# Altium footprint library SI940D.PcbLib: 31 footprints (part 2 of 2)
Each footprint in its own frame and in the unit in brackets; x right, y up, seen from the top. Pads: shape width x height; smd on the part's side, far side on the other; paste and mask are expansions set on the pad; w line width, h text height; cw(c..) or ccw(c..) is an arc to the next point about the centre after c.
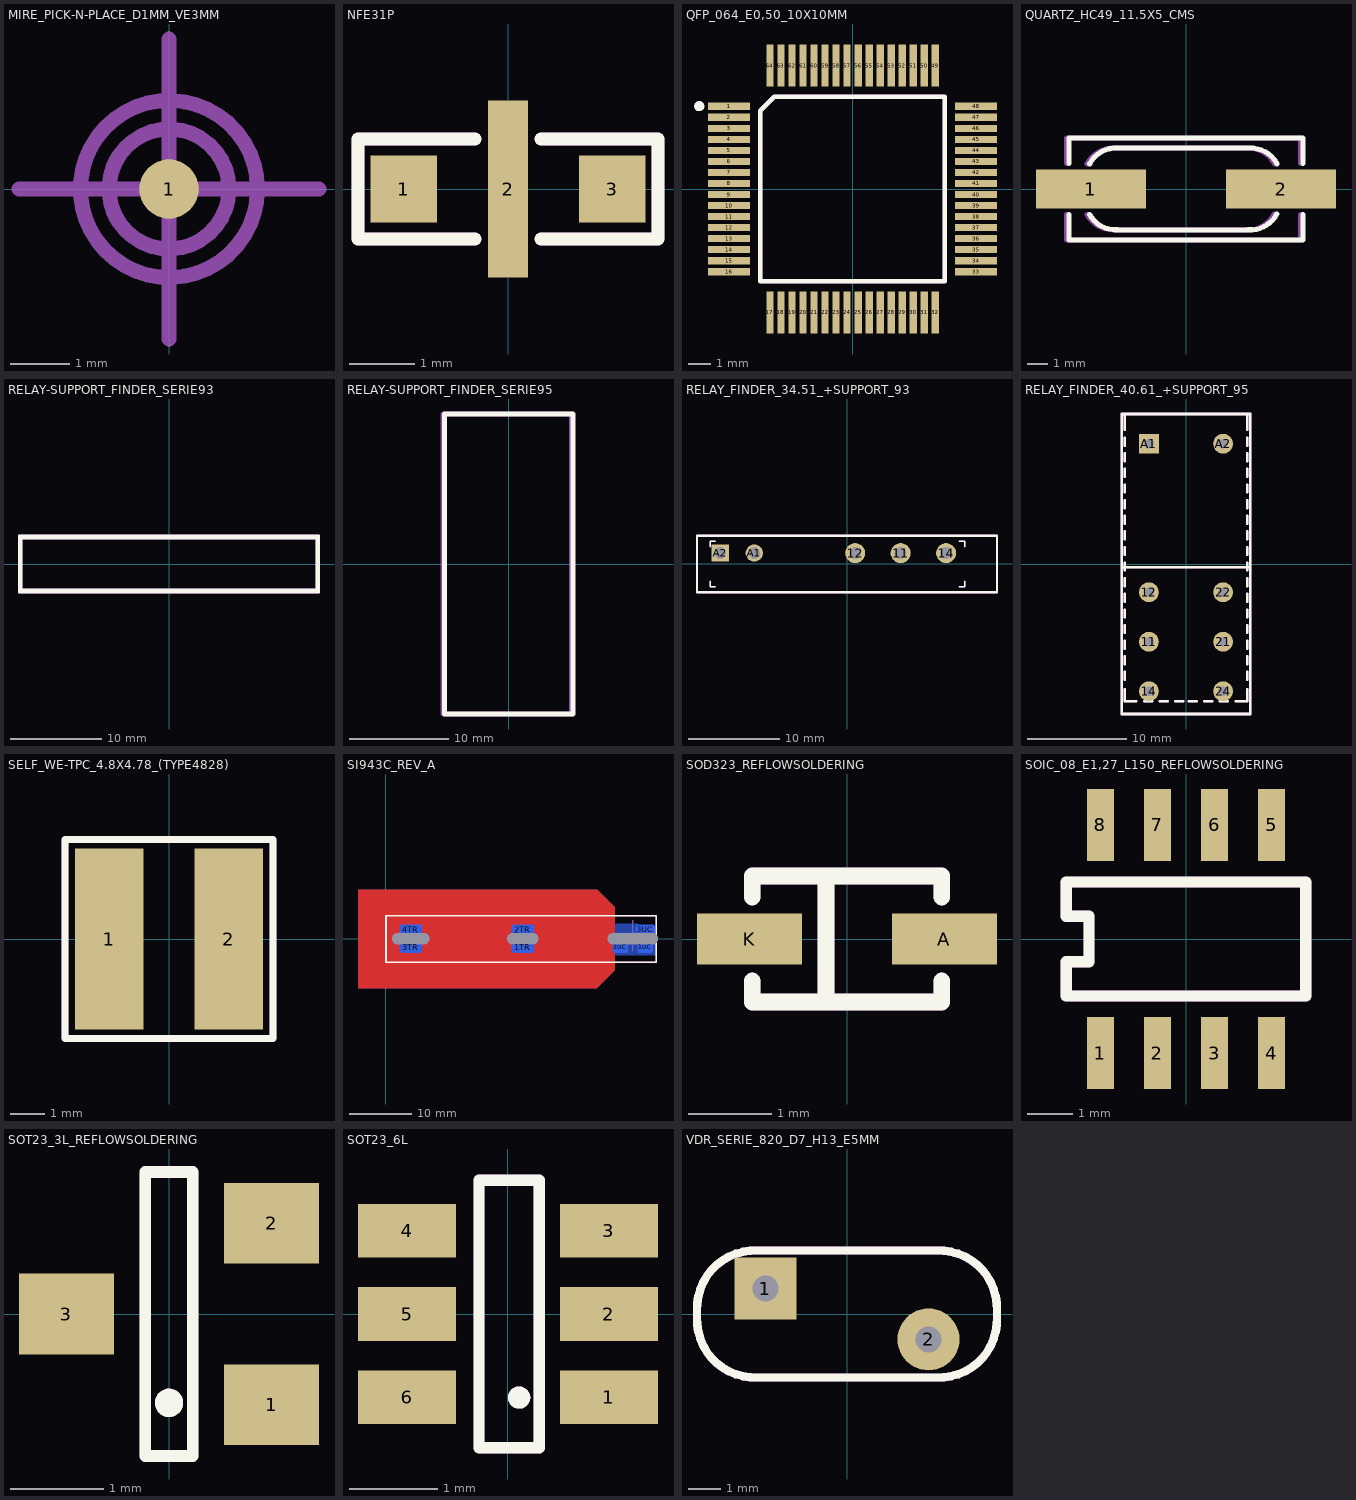
[diagram p1: the footprints below, top view; thin cyan lines are the x and y axes]

## MIRE_PICK-N-PLACE_D1MM_VE3MM [mm]
pads (1):
  round 1 smd paste-25.4 mask+1: 1(0,0)
Mechanical 10:
  circle w0.254: c0,0 r1.016
  circle w0.254: c0,0 r1.5
  lines w0.254: -2.54,0 2.54,0 ; 0,-2.54 0,2.54

## NFE31P [mil]
pads (3):
  rect 40x40 smd paste-3: 1(-62.5,0) 3(62.5,0)
  rect 24x106 smd paste-3 mask+4: 2(0,0)
Top Overlay:
  lines w8: -20,-30 -90,-30 -90,30 -20,30 ; 20,-30 90,-30 90,30 20,30
Mechanical 11:
  lines w8: -20,-30 -90,-30 -90,30 -20,30 ; 20,-30 90,-30 90,30 20,30
  text ".Designator" at -80,-10 h40

## QFP_064_E0,50_10X10MM [mm]
pads (64):
  rect 1.905x0.33 smd paste-0.076 mask+0.102: 1(-5.6,3.75) 2(-5.6,3.25) 3(-5.6,2.75) 4(-5.6,2.25) 5(-5.6,1.75) 6(-5.6,1.25) 7(-5.6,0.75) 8(-5.6,0.25) 9(-5.6,-0.25) 10(-5.6,-0.75) 11(-5.6,-1.25) 12(-5.6,-1.75) 13(-5.6,-2.25) 14(-5.6,-2.75) 15(-5.6,-3.25) 16(-5.6,-3.75) 33(5.6,-3.75) 34(5.6,-3.25) 35(5.6,-2.75) 36(5.6,-2.25) 37(5.6,-1.75) 38(5.6,-1.25) 39(5.6,-0.75) 40(5.6,-0.25) 41(5.6,0.25) 42(5.6,0.75) 43(5.6,1.25) 44(5.6,1.75) 45(5.6,2.25) 46(5.6,2.75) 47(5.6,3.25) 48(5.6,3.75)
  rect 0.33x1.905 smd paste-0.076 mask+0.102: 17(-3.75,-5.6) 18(-3.25,-5.6) 19(-2.75,-5.6) 20(-2.25,-5.6) 21(-1.75,-5.6) 22(-1.25,-5.6) 23(-0.75,-5.6) 24(-0.25,-5.6) 25(0.25,-5.6) 26(0.75,-5.6) 27(1.25,-5.6) 28(1.75,-5.6) 29(2.25,-5.6) 30(2.75,-5.6) 31(3.25,-5.6) 32(3.75,-5.6) 49(3.75,5.6) 50(3.25,5.6) 51(2.75,5.6) 52(2.25,5.6) 53(1.75,5.6) 54(1.25,5.6) 55(0.75,5.6) 56(0.25,5.6) 57(-0.25,5.6) 58(-0.75,5.6) 59(-1.25,5.6) 60(-1.75,5.6) 61(-2.25,5.6) 62(-2.75,5.6) 63(-3.25,5.6) 64(-3.75,5.6)
Top Overlay:
  circle w0.254: c-6.96,3.759 r0.102
  lines w0.203: -4.191,-4.191 4.191,-4.191 4.191,4.191 -3.556,4.191 -4.191,3.556 -4.191,-4.191
Mechanical 11:
  lines w0.203: -4.191,-4.191 -4.191,3.556 -3.556,4.191 4.191,4.191 4.191,-4.191 -4.191,-4.191
  text ".Designator" at -3.048,0 h1.78
3D body "User Library-TQFP64.STEP": height 1.1, standoff 0, extent -6,-6 6.017,6.017

## QUARTZ_HC49_11.5X5_CMS [mil] "HC49/4H SMX"
height 590.55
pads (2):
  rect 216x77 smd paste-3: 1(-187.01,0) 2(187.01,0)
Top Overlay:
  lines w10: -230,-50 -230,-100 230,-100 230,-50 ; -230,50 -230,100 230,100 230,50 ; -189.62,-49.82 ccw(c-138.61,-22.23) -134.96,-80.12 ; -189.31,49.68 cw(c-138.01,22.63) -134.36,80.51 ; -139.3,-80.3 123.2,-80.3 ; -134,80.5 128.5,80.5 ; 123.46,-80.21 ccw(c127.11,-22.33) 178.5,-49.2 ; 124.16,80.32 cw(c127.81,22.43) 179.11,49.48
Mechanical 11:
  lines w10: -235,-50 -235,-100 225,-100 225,-50 ; -235,50 -235,100 225,100 225,50 ; -194.62,-49.82 ccw(c-143.61,-22.23) -139.96,-80.12 ; -194.31,49.68 cw(c-143.01,22.63) -139.36,80.51 ; -144.3,-80.3 118.2,-80.3 ; -139,80.5 123.5,80.5 ; 118.46,-80.21 ccw(c122.11,-22.33) 173.5,-49.2 ; 119.16,80.32 cw(c122.81,22.43) 174.11,49.48
  text ".Designator" at -155,-10 h70
3D body "SW3dPS-hc49_cystal.STEP": height 200, standoff 0, extent -263.78,-96.45 263.78,96.46

## RELAY-SUPPORT_FINDER_SERIE93 [mm]
Top Overlay:
  lines w0.254: -16.5,-2.846 16.5,-2.846 ; -16.5,2.846 16.5,2.846 ; -16.246,-3.1 -16.246,3.1 ; 16.246,-3.1 16.246,3.1 ; -16.5,-3.1 -16.5,3.1 16.5,3.1 16.5,-3.1 -16.5,-3.1
Mechanical 11:
  lines w0.254: -16.5,-2.846 16.5,-2.846 ; -16.5,2.846 16.5,2.846 ; -16.246,-3.1 -16.246,3.1 ; 16.246,-3.1 16.246,3.1 ; -16.5,-3.1 16.5,-3.1 16.5,3.1 -16.5,3.1 -16.5,-3.1
  text ".Designator" at -4.953,-0.254 h1.78

## RELAY-SUPPORT_FINDER_SERIE95 [mm]
Top Overlay:
  lines w0.508: -6.5,-15.15 -6.5,15.15 6.5,15.15 6.5,-15.15 -6.5,-15.15
Mechanical 11:
  lines w0.508: -6.627,-15.15 6.373,-15.15 6.373,15.15 -6.627,15.15 -6.627,-15.15
  text ".Designator" at 0.508,2.032 h1.78
3D body: height 9.5, standoff 0, extent -6.5,9.65 6.5,15.15
3D body: height 9.5, standoff 5, extent -6.5,-0.35 6.5,9.65
3D body: height 9.5, standoff 0, extent -6.5,-15.15 6.5,-0.35

## RELAY_FINDER_34.51_+SUPPORT_93 [mm]
pads (5):
  round 2.2 hole 1.3: 11(5.9,1.2) 12(0.9,1.2) 14(10.9,1.2)
  round 1.9 hole 1.3: A1(-10.2,1.2)
  rect 1.9x1.9 hole 1.3: A2(-13.95,1.2)
Top Overlay:
  lines w0.203: -15.05,-1.94 -15.05,-2.5 -14.49,-2.5 ; -15.05,1.94 -15.05,2.5 -14.49,2.5 ; 12.39,-2.5 12.95,-2.5 12.95,-1.94 ; 12.39,2.5 12.95,2.5 12.95,1.94
  lines w0.254: -16.5,-3.1 -16.5,3.1 16.5,3.1 16.5,-3.1 -16.5,-3.1
Mechanical 11:
  lines w0.203: -15.05,-1.94 -15.05,-2.5 -14.49,-2.5 ; -15.05,1.94 -15.05,2.5 -14.49,2.5 ; 12.39,-2.5 12.95,-2.5 12.95,-1.94 ; 12.39,2.5 12.95,2.5 12.95,1.94
  lines w0.254: -16.5,-3.1 16.5,-3.1 16.5,3.1 -16.5,3.1 -16.5,-3.1
  text ".Designator" at -3.302,-1.524 h1.78
3D body "User Library-93_11.STEP": height 28.9, standoff -3.8, extent -16.424,-3.1 16.576,3.1

## RELAY_FINDER_40.61_+SUPPORT_95 [mm]
pads (8):
  round 2 hole 1: 11(-3.75,-7.85) 12(-3.75,-2.85) 14(-3.75,-12.85) 21(3.75,-7.85) 22(3.75,-2.85) 24(3.75,-12.85) A2(3.75,12.15)
  rect 2x2 hole 1: A1(-3.75,12.15)
Top Overlay:
  lines w0.254: -6.5,-0.35 6.5,-0.35 ; -6.2,-12.654 -6.2,-13.85 -5.004,-13.85 ; -6.2,-11.696 -6.2,-10.907 ; -6.2,-10.118 -6.2,-9.33 ; -6.2,-8.541 -6.2,-7.753 ; -6.2,-6.964 -6.2,-6.175 ; -6.2,-5.387 -6.2,-4.598 ; -6.2,-3.81 -6.2,-3.021 ; -6.2,-2.232 -6.2,-1.444 ; -6.2,-0.655 -6.2,0.133 ; -6.2,0.922 -6.2,1.71 ; -6.2,2.499 -6.2,3.288 ; -6.2,4.076 -6.2,4.865 ; -6.2,5.653 -6.2,6.442 ; -6.2,7.231 -6.2,8.019 ; -6.2,8.808 -6.2,9.596 ; -6.2,10.385 -6.2,11.174 ; -6.2,11.962 -6.2,12.751 ; -6.2,13.539 -6.2,14.328 ; -6.2,14.061 -6.2,15.15 6.2,15.15 6.2,14.061 ; -5.411,15.15 -6.5,15.15 -6.5,-15.15 6.5,-15.15 6.5,15.15 5.411,15.15 ; -4.215,-13.85 -3.427,-13.85 ; -2.638,-13.85 -1.849,-13.85 ; -1.061,-13.85 -0.272,-13.85 ; 0.272,-13.85 1.061,-13.85 ; 1.849,-13.85 2.638,-13.85 ; 3.427,-13.85 4.215,-13.85 ; 5.004,-13.85 6.2,-13.85 6.2,-12.654 ; 6.2,-11.696 6.2,-10.907 ; 6.2,-10.118 6.2,-9.33 ; 6.2,-8.541 6.2,-7.753 ; 6.2,-6.964 6.2,-6.175 ; 6.2,-5.387 6.2,-4.598 ; 6.2,-3.81 6.2,-3.021 ; 6.2,-2.232 6.2,-1.444 ; 6.2,-0.655 6.2,0.133 ; 6.2,0.922 6.2,1.71 ; 6.2,2.499 6.2,3.288 ; 6.2,4.076 6.2,4.865 ; 6.2,5.653 6.2,6.442 ; 6.2,7.231 6.2,8.019 ; 6.2,8.808 6.2,9.596 ; 6.2,10.385 6.2,11.174 ; 6.2,11.962 6.2,12.751 ; 6.2,13.539 6.2,14.328
Mechanical 11:
  lines w0.254: -6.5,-0.35 6.5,-0.35 ; -6.2,-12.654 -6.2,-13.85 -5.004,-13.85 ; -6.2,-11.696 -6.2,-10.907 ; -6.2,-10.118 -6.2,-9.33 ; -6.2,-8.541 -6.2,-7.753 ; -6.2,-6.964 -6.2,-6.175 ; -6.2,-5.387 -6.2,-4.598 ; -6.2,-3.81 -6.2,-3.021 ; -6.2,-2.232 -6.2,-1.444 ; -6.2,-0.655 -6.2,0.133 ; -6.2,0.922 -6.2,1.71 ; -6.2,2.499 -6.2,3.288 ; -6.2,4.076 -6.2,4.865 ; -6.2,5.653 -6.2,6.442 ; -6.2,7.231 -6.2,8.019 ; -6.2,8.808 -6.2,9.596 ; -6.2,10.385 -6.2,11.174 ; -6.2,11.962 -6.2,12.751 ; -6.2,13.539 -6.2,14.328 ; -6.2,14.061 -6.2,15.15 6.2,15.15 6.2,14.061 ; -5.411,15.15 -6.5,15.15 -6.5,-15.15 6.5,-15.15 6.5,15.15 5.411,15.15 ; -4.215,-13.85 -3.427,-13.85 ; -2.638,-13.85 -1.849,-13.85 ; -1.061,-13.85 -0.272,-13.85 ; 0.272,-13.85 1.061,-13.85 ; 1.849,-13.85 2.638,-13.85 ; 3.427,-13.85 4.215,-13.85 ; 5.004,-13.85 6.2,-13.85 6.2,-12.654 ; 6.2,-11.696 6.2,-10.907 ; 6.2,-10.118 6.2,-9.33 ; 6.2,-8.541 6.2,-7.753 ; 6.2,-6.964 6.2,-6.175 ; 6.2,-5.387 6.2,-4.598 ; 6.2,-3.81 6.2,-3.021 ; 6.2,-2.232 6.2,-1.444 ; 6.2,-0.655 6.2,0.133 ; 6.2,0.922 6.2,1.71 ; 6.2,2.499 6.2,3.288 ; 6.2,4.076 6.2,4.865 ; 6.2,5.653 6.2,6.442 ; 6.2,7.231 6.2,8.019 ; 6.2,8.808 6.2,9.596 ; 6.2,10.385 6.2,11.174 ; 6.2,11.962 6.2,12.751 ; 6.2,13.539 6.2,14.328
  text ".Designator" at -3.302,4.064 h1.78
3D body: height 9.5, standoff 5, extent -6.5,-0.35 6.5,9.65
3D body: height 9.5, standoff 0, extent -6.5,9.65 6.5,15.15
3D body: height 9.5, standoff 0, extent -6.5,-15.15 6.5,-0.35
3D body "relais_40_61_8_006_0000.stp": height 34.5, standoff 4.5, extent -6.2,-13.853 6.2,15.147

## SELF_WE-TPC_4.8X4.78_(TYPE4828) [mm]
height 2.5
pads (2):
  rect 2x5.3 smd paste-0.102: 1(-1.75,0) 2(1.75,0)
Top Overlay:
  lines w0.203: -3.048,-2.921 -3.048,2.921 3.048,2.921 3.048,-2.921 -3.048,-2.921
Mechanical 11:
  lines w0.203: -3.048,-2.921 -3.048,2.921 3.048,2.921 3.048,-2.921 -3.048,-2.921
  text ".Designator" at -2.54,-0.381 h1.78
3D body "WE-TPC_4828.stp": height 2.79, standoff -0.01, extent -2.4,-2.4 2.4,2.4

## SI943C_REV_A [mm] "crйй par FB (17/06/13) = copie de SI943B_REV_B + Step 3d MAJ"
pads (10):
  rect 0x0 hole 1.8 slot 6 at 0 deg unplated paste-25.4: 1(4,0)
  rrect40% 3.5x1.69 smd far side: 1TR(22,-1.405) 2TR(22,1.405) 3TR(4,-1.405) 4TR(4,1.405)
  rrect40% 2.4x1.69 smd far side: 1UC(41.7,-1.405) 2UC(37.7,-1.405)
  rect 0x0 hole 1.8 slot 5 at 0 deg unplated paste-25.4: 3(22,0)
  rrect40% 3x1.69 smd far side: 3UC(41.7,1.405)
  rect 0x0 hole 1.8 slot 8.1 at 0 deg unplated paste-25.4: 4(39.7,0)
Top Layer:
  pour cut-out: -4.5,7.9 34.01,7.9 36.83,5.08 36.83,-5.08 33.91,-8 -4.5,-8
Mid-Layer 1:
  pour cut-out: -4.5,7.9 34.01,7.9 36.83,5.08 36.83,-5.08 33.91,-8 -4.5,-8
Mid-Layer 2:
  pour cut-out: -4.5,7.9 34.01,7.9 36.83,5.08 36.83,-5.08 33.91,-8 -4.5,-8
Bottom Layer:
  pour cut-out: 43.561,-2.667 36.83,-2.667 36.83,2.413 40.513,2.413 40.513,0.635 43.561,0.635
  pour cut-out: -4.5,7.9 34.01,7.9 36.83,5.08 36.83,-5.08 33.91,-8 -4.5,-8
Top Overlay:
  lines w0.254: 0,-3.81 43.5,-3.81 43.5,3.7 0,3.7 0,-3.81
Mechanical 7:
  lines w0.203: 4,-2 4,3 ; 22,-2 22,3 ; 39.7,-2 39.7,3 ; 1,-0.9 7,-0.9 7,0.9 1,0.9 1,-0.9 ; 19.5,-0.9 24.5,-0.9 24.5,0.9 19.5,0.9 19.5,-0.9 ; 36.15,-0.9 43.25,-0.9 43.25,0.9 36.15,0.9 36.15,-0.9
Mechanical 11:
  lines w0.254: 0,-3.81 43.5,-3.81 43.5,3.7 0,3.7 0,-3.81
  text ".Designator" at 10.414,-0.381 h1.78
3D body "SC943-0C_20-12-2012.step": height 13.43, standoff -3.4, extent 0.011,-3.458 43.522,3.151

## SOD323_REFLOWSOLDERING [mm]
height 2.5
pads (2):
  rect 1.27x0.61 smd paste-0.076: A(1.175,0) K(-1.175,0)
Top Overlay:
  lines w0.203: -1.143,-0.508 -1.143,-0.762 1.143,-0.762 1.143,-0.508 ; -1.143,0.508 -1.143,0.762 1.143,0.762 1.143,0.508 ; -0.254,-0.762 -0.254,0.762
Mechanical 11:
  lines w0.203: -1.143,-0.508 -1.143,-0.762 1.143,-0.762 1.143,-0.508 ; -1.143,0.508 -1.143,0.762 1.143,0.762 1.143,0.508 ; -0.254,-0.762 -0.254,0.762
  text ".Designator" at -0.127,-0.381 h1.27
3D body "SW3dPS-SOD-323.STEP": height 1.1, standoff 0, extent -1.3,-0.675 1.3,0.675

## SOIC_08_E1,27_L150_REFLOWSOLDERING [mil]
pads (8):
  rect 24x63 smd paste-3: 1(-75,-100) 2(-25,-100) 3(25,-100) 4(75,-100) 5(75,100) 6(25,100) 7(-25,100) 8(-75,100)
Top Overlay:
  lines w10: -105,-50 105,-50 105,50 -105,50 -105,20 -85,20 -85,-20 -105,-20 -105,-50
Mechanical 11:
  lines w10: -105,-50 105,-50 105,50 -105,50 -105,20 -85,20 -85,-20 -105,-20 -105,-50
  text ".Designator" at -70,-10 h50
3D body "User Library-SOIC-8-150.STEP": height 68.9, standoff 0, extent -98.42,-122.04 98.43,122.05

## SOT23_3L_REFLOWSOLDERING [mil]
pads (3):
  rect 40x34 smd paste-3: 1(43.31,-38.39) 2(43.31,38.39) 3(-43.31,0)
Top Overlay:
  circle w7: c0,-37.5 r2.5
  lines w5: -10,-60 10,-60 10,60 -10,60 -10,-60
Mechanical 11:
  circle w7: c0,-37.5 r2.5
  lines w5: -10,-60 10,-60 10,60 -10,60 -10,-60
  text ".Designator" at -25,-65 h50
3D body "SW3dPS-transistor SOT233.STEP": height 40.89, standoff -2.41, extent -55.12,-57.09 55.12,57.09

## SOT23_6L [mil]
pads (6):
  rect 44x24 smd paste-3: 1(45.28,-37.4) 2(45.3,0) 3(45.28,37.4) 4(-45.28,37.4) 5(-45.28,0) 6(-45.28,-37.4)
Top Overlay:
  circle w5: c5,-37.5 r2.5
  lines w5: -13,-60 -13,60 14,60 14,-60 -13,-60
Mechanical 11:
  circle w5: c5,-37.5 r2.5
  lines w5: -13,-60 14,-60 14,60 -13,60 -13,-60
  text ".Designator" at -25,-75 h50
3D body "User Library-SOT23-6.STEP": height 51.18, standoff 0, extent -59.06,-59.06 59.05,59.05

## VDR_SERIE_820_D7_H13_E5MM [mm]
pads (2):
  rect 1.905x1.905 hole 0.8: 1(-2.5,0.78)
  round 1.905 hole 0.8: 2(2.5,-0.78)
Top Overlay:
  lines w0.254: -4.598,-0.096 ccw(c-2.827,-0.173) -2.75,-1.944 2.75,-1.944 ccw(c2.827,-0.173) 4.598,-0.096 4.598,0.096 ccw(c2.827,0.173) 2.75,1.944 -2.75,1.944 ccw(c-2.827,0.173) -4.598,0.096 -4.598,-0.096
Mechanical 11:
  lines w0.254: -4.598,-0.096 ccw(c-2.827,-0.173) -2.75,-1.944 2.75,-1.944 ccw(c2.827,-0.173) 4.598,-0.096 4.598,0.096 ccw(c2.827,0.173) 2.75,1.944 -2.75,1.944 ccw(c-2.827,0.173) -4.598,0.096 -4.598,-0.096
  text ".Designator" at -3.048,-0.254 h1.27
3D body "WE-VD_7_mm.stp": height 13.48, standoff -20.5, extent -4.494,-1.791 4.492,1.791